# Altium integrated library RC1206JR-13330RL.IntLib: 1 symbol
Pins are listed as number, name and electrical type; pins without a type are passive.

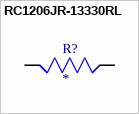
[diagram p0: symbol RC1206JR-13330RL]

## RC1206JR-13330RL
designator R?
Res Thick Film 1206 330 Ohm 5% 0.25W(1/4W) Â±100ppm/Â°C Epoxy Pad SMD T/R; MF: Yageo Corporation; MP: RC1206JR13330RL; SnapEDA_Link: https://www.snapeda.com/parts/RC1206JR13330RL/Yageo/view-part/?ref=snap; Package: 1206-2 YAGEO; Value: *; Check_prices: https://www.snapeda.com/parts/RC1206JR13330RL/Yageo/view-part/?ref=eda
footprint RESC3216X65
pins: 1, 2